# Altium schematic symbol library LDR_Sensor_SCHLib.SchLib: 5 symbols
Pins are listed as number, name and electrical type; pins without a type are passive.

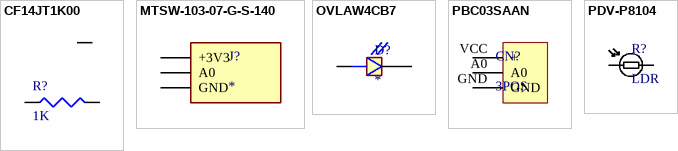
[diagram p0: symbols CF14JT1K00 to PDV-P8104]

## CF14JT1K00
designator R?, comment 1K
RES 1K OHM 5% 1/4W AXIAL; Manufacturer: Stackpole Electronics; Manufacturer Part Number: CF14JT1K00; Supplier: Digikey; Supplier Part Number: CF14JT1K00CT-ND; RoHS: Yes; Category: Through-Hole Resistors; Stock: 677085; Pricing: 1=0.1, 10=0.026, 25=0.022, 50=0.0192, 100=0.0169, 250=0.01424, 500=0.0126, 1000=0.0112 (USD); ComponentLink1URL: http://components.arrow.com/part/dataview/27620077S9848643N1174?src-supplier=Arrow+Electronics; ComponentLink1Description: http://components.arrow.com/part/dataview/27620077S9848643N1174?src-supplier=Arrow+Electronics; ComponentLink2URL: https://www.seielect.com/catalog/SEI-CF_CFM.pdf?src-supplier=Avnet; ComponentLink2Description: https://www.seielect.com/catalog/SEI-CF_CFM.pdf?src-supplier=Avnet; ComponentLink3URL: https://www.seielect.com/catalog/SEI-Packaging.pdf?src-supplier=Digikey; ComponentLink3Description: https://www.seielect.com/catalog/SEI-Packaging.pdf?src-supplier=Digikey; ComponentLink4URL: https://www.seielect.com/Catalog/SEI-CF_CFM.pdf?src-supplier=Digikey; ComponentLink4Description: https://www.seielect.com/Catalog/SEI-CF_CFM.pdf?src-supplier=Digikey; ComponentLink5URL: http://www.seielect.com/Catalog/SEI-CF_CFM.pdf?src-supplier=Future+Electronics; ComponentLink5Description: http://www.seielect.com/Catalog/SEI-CF_CFM.pdf?src-supplier=Future+Electronics; ComponentLink6URL: https://www.verical.com/server-webapp/html/getDatasheet?partID=360403&src-supplier=Verical; ComponentLink6Description: https://www.verical.com/server-webapp/html/getDatasheet?partID=360403&src-supplier=Verical; ComponentLink7URL: https://datasheet.octopart.com/CF14JT1K00-Stackpole-Electronics-datasheet-8360004.pdf?src-supplier=Future+Electronics; ComponentLink7Description: https://datasheet.octopart.com/CF14JT1K00-Stackpole-Electronics-datasheet-8360004.pdf?src-supplier=Future+Electronics; ComponentLink8URL: https://datasheet.octopart.com/CF14JT1K00-Stackpole-Electronics-datasheet-32780772.pdf?src-supplier=Master+Electronics; ComponentLink8Description: https://datasheet.octopart.com/CF14JT1K00-Stackpole-Electronics-datasheet-32780772.pdf?src-supplier=Master+Electronics
footprint CF14JT1K00
pins: 1, 2, 3

## MTSW-103-07-G-S-140
designator J?
MP: MTSW-103-07-G-S-140; Price: None; Availability: Unavailable; Package: None; Value: *
footprint SAMTEC_MTSW-103-07-G-S-140
footprint PBC03SAAN
pins: 02 A0, 03 GND, VCC +3V3

## OVLAW4CB7
designator D?
Ovlaw4Cb7 White LED 3mm (T-1) Round Lens Through Hole Package | Optek (TT Electronics) OVLAW4CB7; MF: TT Electronics/Optek; SnapEDA_Link: https://www.snapeda.com/parts/OVLAW4CB7/TT+Electronics%252FOptek/view-part/?ref=snap; Package: Package; Value: *; MP: OVLAW4CB7; Check_prices: https://www.snapeda.com/parts/OVLAW4CB7/TT+Electronics%252FOptek/view-part/?ref=eda
footprint LEDRD254W50D305H520P
footprint LEDRD254W50D305H520P
pins: A, C

## PBC03SAAN
designator CN?, comment 3POS
CONN HEADER VERT 3POS 2.54MM; Manufacturer: Sullins; Manufacturer Part Number: PBC03SAAN; Gender: 29Gender; Number of Contacts: 3NUMBER; Current Rating: 3A; Supplier: Digikey; Supplier Part Number: S1011E-03-ND; RoHS: Yes; Category: Headers and Wire Housings; Stock: 25747; Pricing: 1=0.45, 10=0.379, 100=0.3218, 500=0.28716, 1000=0.27344, 5000=0.24408, 10000=0.23243 (USD); Housing Color: 46Colour; Contact Material: 153,157ConductorMaterial; Housing Material: 4239ConductorMaterial; Min Operating Temperature: -65°C; Max Operating Temperature: 125°C; Length: 7.62mm; Width: 2.54mm; Height: 8.71mm; Lead Free: 5697LeadFree; ComponentLink1URL: https://s3.amazonaws.com/catalogspreads-pdf/PAGE112-113%20.100%20MALE%20HDR.pdf?src-supplier=Digikey; ComponentLink1Description: https://s3.amazonaws.com/catalogspreads-pdf/PAGE112-113%20.100%20MALE%20HDR.pdf?src-supplier=Digikey; ComponentLink2URL: https://datasheet.octopart.com/PBC03SAAN-Sullins-datasheet-41399297.pdf?src-supplier=Future+Electronics; ComponentLink2Description: https://datasheet.octopart.com/PBC03SAAN-Sullins-datasheet-41399297.pdf?src-supplier=Future+Electronics; ComponentLink3URL: http://www.sullinscorp.com/catalogs/77_Page78-79_HEADER_.100_2.54mm_MALE_BREAKAWAY.pdf?src-supplier=Future+Electronics; ComponentLink3Description: http://www.sullinscorp.com/catalogs/77_Page78-79_HEADER_.100_2.54mm_MALE_BREAKAWAY.pdf?src-supplier=Future+Electronics
footprint PBC03SAAN
pins: A0, GND, VCC +

## PDV-P8104
designator R?, comment LDR
CDS PHOTORESISTOR 5MM; Manufacturer: Advanced Photonix; Manufacturer Part Number: PDV-P8104; Wavelength: 520nm; Rise Time: 60ms; Value: -60000R; Supplier: Digikey; Supplier Part Number: PDV-P8104-ND; RoHS: No; Category: Optical Sensors; Stock: 5792; Pricing: 1=0.87, 5=0.762, 10=0.724, 25=0.6772, 50=0.6454, 100=0.6164, 500=0.55816, 1000=0.53652, 5000=0.49297 (USD); Case/Package: Radial; Housing Material: Ceramic; Min Operating Temperature: -30°C; Max Operating Temperature: 75°C; Packaging: Bag; Series: -; Diameter: 5.1mm; Height: 2mm; Lead Free: Lead Free; ComponentLink1URL: https://datasheet.ciiva.com/2819/pdv-p8104-2819548.pdf?src-supplier=Digikey; ComponentLink1Description: https://datasheet.ciiva.com/2819/pdv-p8104-2819548.pdf?src-supplier=Digikey
footprint PDV-P8104
pins: 1, 2